# EAGLE library part DM81LS98AN (library User-Submitted)
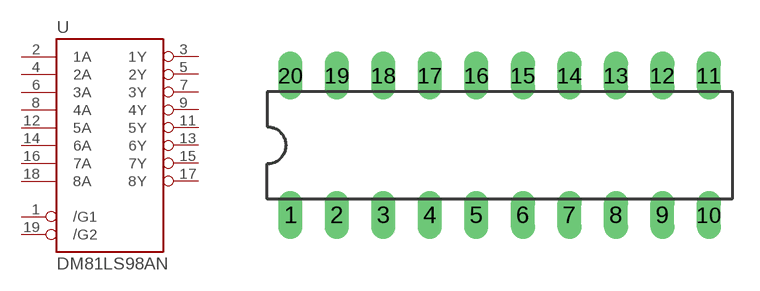
[diagram p16: symbol with the pads of DIL20; footprint DIL20]

Designator prefix -

## DM81LS98AN  [DIL20]
1  /G1  in
2  1A  in
3  1Y  hiz
4  2A  in
5  2Y  hiz
6  3A  in
7  3Y  hiz
8  4A  in
9  4Y  hiz
11  5Y  hiz
12  5A  in
13  6Y  hiz
14  6A  in
15  7Y  hiz
16  7A  in
17  8Y  hiz
18  8A  in
19  /G2  in

## Footprint DIL20 (pad centres in mm)
Dual In Line Package
drill 0.813 long: 1 -11.43,-3.81; 2 -8.89,-3.81; 3 -6.35,-3.81; 4 -3.81,-3.81; 5 -1.27,-3.81; 6 1.27,-3.81; 7 3.81,-3.81; 8 6.35,-3.81; 9 8.89,-3.81; 10 11.43,-3.81; 11 11.43,3.81; 12 8.89,3.81; 13 6.35,3.81; 14 3.81,3.81; 15 1.27,3.81; 16 -1.27,3.81; 17 -3.81,3.81; 18 -6.35,3.81; 19 -8.89,3.81; 20 -11.43,3.81